# Altium schematic symbol library SCH - POWER - MODULE - B1212S-1WR3.SchLib: 1 symbol
Pins are listed as number, name and electrical type; pins without a type are passive.

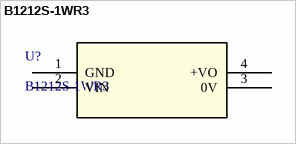
[diagram p0: symbol B1212S-1WR3]

## B1212S-1WR3
designator U?
Description; Manufacturer_Name: MORNSUN; Type: DC DC Converters; Copyright: Copyright (C) 2025 Ultra Librarian. All rights reserved.; Manufacturer_Part_Number: B1212S-1WR3; RefDes: RefDes
footprint SIP4_B_S-1WR3_MNS
pins: 1 GND (power), 2 VIN (power), 3 0V, 4 +VO (power)